# Altium footprint library IC.PcbLib: 18 footprints (part 2 of 2)
Each footprint in its own frame and in the unit in brackets; x right, y up, seen from the top. Pads: shape width x height; smd on the part's side, far side on the other; paste and mask are expansions set on the pad; w line width, h text height; cw(c..) or ccw(c..) is an arc to the next point about the centre after c.
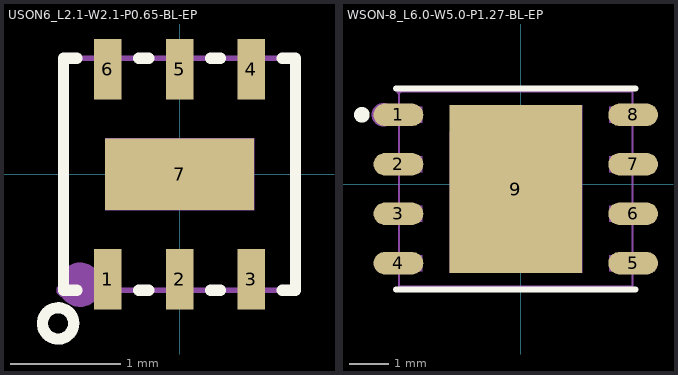
[diagram p1: the footprints below, top view; thin cyan lines are the x and y axes]

## USON6_L2.1-W2.1-P0.65-BL-EP [mm]
pads (7):
  rect 0.25x0.55 smd: 1(-0.65,-0.95) 2(0,-0.95) 3(0.65,-0.95) 4(0.65,0.95) 5(0,0.95) 6(-0.65,0.95)
  rect 1.35x0.65 smd: 7(0,0)
Top Overlay:
  circle w0.102: c-1.1,-1.35 r0.141
  lines w0.102: -0.93,-1.05 -1.05,-1.05 -1.05,1.05 -0.93,1.05 ; -0.37,-1.05 -0.28,-1.05 ; -0.37,1.05 -0.28,1.05 ; 0.28,-1.05 0.37,-1.05 ; 0.28,1.05 0.37,1.05 ; 0.93,-1.05 1.05,-1.05 1.05,1.05 0.93,1.05
Mechanical 6:
  circle w0.2: c-0.9,-1 r0.1
Mechanical 15:
  region: -0.99,-1.05 -0.99,-1.075 -1.025,-1.11 -1.075,-1.11 -1.11,-1.075 -1.11,-1.05 -1.11,-1.025 -1.075,-0.99 -1.025,-0.99 -0.99,-1.025 -0.99,-1.05
  region: 0.675,-0.325 -0.675,-0.325 -0.675,0.325 0.675,0.325
  region: -0.55,0.75 -0.75,0.75 -0.75,1.05 -0.55,1.05
  region: -0.55,-1.05 -0.75,-1.05 -0.75,-0.75 -0.55,-0.75
  region: 0.1,-1.05 -0.1,-1.05 -0.1,-0.75 0.1,-0.75
  region: 0.75,-1.05 0.55,-1.05 0.55,-0.75 0.75,-0.75
  region: 0.75,0.75 0.55,0.75 0.55,1.05 0.75,1.05
  region: 0.1,0.75 -0.1,0.75 -0.1,1.05 0.1,1.05
  lines w0.051: -1.05,-1.05 -1.05,1.05 1.05,1.05 1.05,-1.05 -1.05,-1.05
3D body "OPT3001DNPR.stp": height 0.63, standoff 0, extent -1.016,-1 0.984,1

## WSON-8_L6.0-W5.0-P1.27-BL-EP [mil]
pads (9):
  oval 50.22x22.87 smd: 1(-123.61,70) 2(-123.61,20) 3(-123.61,-30) 4(-123.61,-80) 5(113.61,-80) 6(113.61,-30) 7(113.61,20) 8(113.61,70)
  rect 133.86x169.29 smd: 9(-5,-5)
Top Overlay:
  circle w7.87: c-160.53,70 r3.94
  lines w6: -126.11,-106.42 116.11,-106.42 ; -126.11,96.42 116.11,96.42
Mechanical 6:
  circle w11.81: c-138.86,70 r5.91
Mechanical 15:
  region: -123.11,91.06 -124.09,91.06 -125.47,92.44 -125.47,94.4 -124.09,95.78 -123.11,95.78 -122.13,95.78 -120.75,94.4 -120.75,92.44 -122.13,91.06 -123.11,91.06
  region: -123.11,78.17 -99.49,78.17 -99.49,61.83 -123.11,61.83
  region: -123.11,28.17 -99.49,28.17 -99.49,11.83 -123.11,11.83
  region: -123.11,-21.83 -99.49,-21.83 -99.49,-38.17 -123.11,-38.17
  region: -123.11,-71.83 -99.49,-71.83 -99.49,-88.17 -123.11,-88.17
  region: 113.11,78.17 89.49,78.17 89.49,61.83 113.11,61.83
  region: 113.11,28.17 89.49,28.17 89.49,11.83 113.11,11.83
  region: 113.11,-21.83 89.49,-21.83 89.49,-38.17 113.11,-38.17
  region: 113.11,-71.83 89.49,-71.83 89.49,-88.17 113.11,-88.17
  region: -45.16,79.65 61.93,79.65 61.93,-89.65 -71.93,-89.65 -71.93,52.87
  lines w2: -123.11,-103.42 113.11,-103.42 113.11,93.42 -123.11,93.42 -123.11,-103.42
3D body "W25Q16JVZPIQ_TR.stp": height 31.5, standoff 0, extent -124.35,-103.72 115.81,93.13